# Altium schematic symbol library AP9101C-COTRG.Schlib: 1 symbol
Pins are listed as number, name and electrical type; pins without a type are passive.

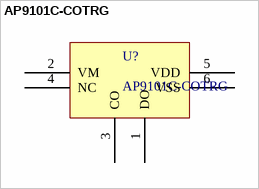
[diagram p0: symbol AP9101C-COTRG]

## AP9101C-COTRG
designator U?
Battery Protection IC
footprint SOT-26
pins: 1 DO, 2 VM, 3 CO, 4 NC, 5 VDD, 6 VSS